# EAGLE library part CON-8P-TABS (library Connectors)
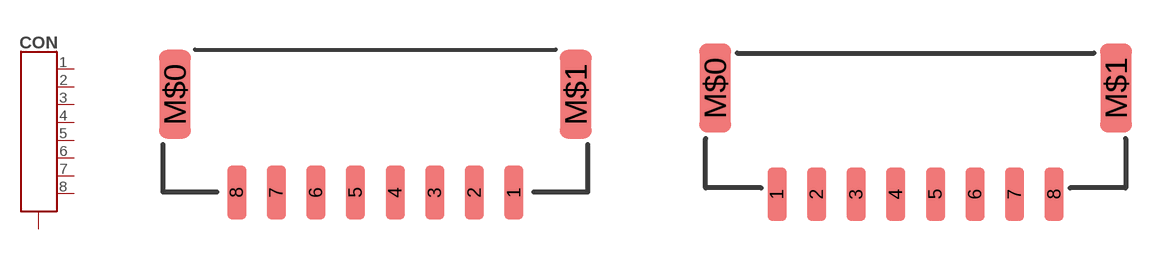
[diagram p18: symbol with the pads of SM08B-GHS-TB; footprints SM08B-GHS-TB, BM08B-GHS-TBT]

Designator prefix CON

## CON-8P-TABS-GHS-SIDE (ENTRY: SIDE; MANF: JST Sales America Inc; MANF#: SM06B-GHS-TB(LF)(SN))  [SM08B-GHS-TB]
1  1  pas
2  2  pas
3  3  pas
4  4  pas
5  5  pas
6  6  pas
7  7  pas
8  8  pas
M$0  G1  pas
M$1  G1  pas

## CON-8P-TABS-GHS-TOP (ENTRY: TOP; MANF: JST Sales America Inc; MANF#: BM06B-GHS-TBT(LF)(SN))  [BM08B-GHS-TBT]
Pads as for SM08B-GHS-TB

## Footprint SM08B-GHS-TB (pad centres in mm)
http://www.molex.com/pdm_docs/sd/5023860270_sd.pdf
smd 0.6 x 1.7: 1 4.375,-2.91; 2 3.125,-2.91; 3 1.875,-2.91; 4 0.625,-2.91; 5 -0.625,-2.91; 6 -1.875,-2.91; 7 -3.125,-2.91; 8 -4.375,-2.91
smd 1 x 2.8: M$0 -6.325,0.19; M$1 6.325,0.19

## Footprint BM08B-GHS-TBT (pad centres in mm)
smd 0.6 x 1.7: 1 -4.375,-2.9; 2 -3.125,-2.9; 3 -1.875,-2.9; 4 -0.625,-2.9; 5 0.625,-2.9; 6 1.875,-2.9; 7 3.125,-2.9; 8 4.375,-2.9
smd 1 x 2.8: M$0 -6.325,0.45; M$1 6.325,0.45